# EAGLE library part HT1632CV120 (library HT1632)
HT1632 LED driver library designed by Mike McPherson (mmcp42) available for download here: http://www.mmcpix.com/CNC/HT1632.lbr
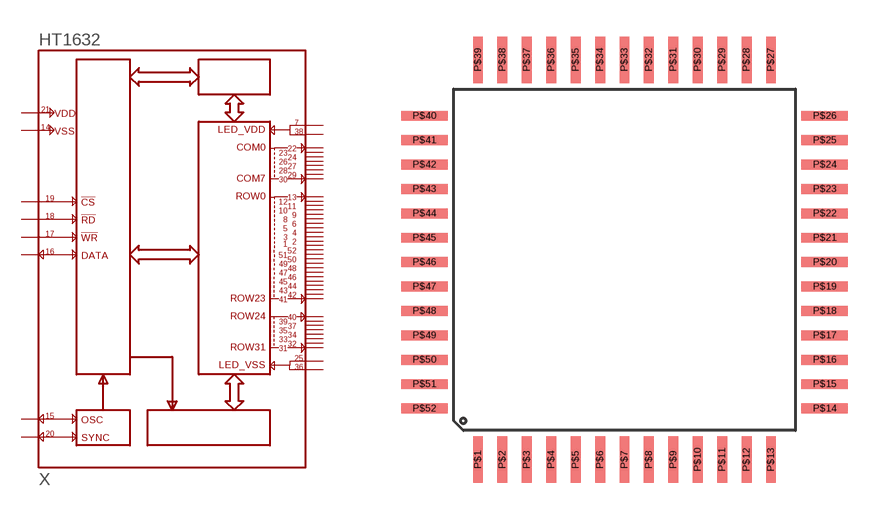
[diagram p0: symbol with the pads of QFP52; footprint QFP52]

Designator prefix X

## HT1632CV120  [QFP52]
P$1  ROW11
P$2  ROW10
P$3  ROW9
P$4  ROW8
P$5  ROW7
P$6  ROW6
P$7  LED_VDD1
P$8  ROW5
P$9  ROW4
P$10  ROW3
P$11  ROW2
P$12  ROW1
P$13  ROW0
P$14  VSS
P$15  OSC
P$16  DATA
P$17  !WR
P$18  !RD
P$19  !CS
P$20  SYNC
P$21  VDD
P$22  COM0
P$23  COM1
P$24  COM2
P$25  LED_VSS1
P$26  COM3
P$27  COM4
P$28  COM5
P$29  COM6
P$30  COM7
P$31  ROW31
P$32  ROW30
P$33  ROW29
P$34  ROW28
P$35  ROW27
P$36  LED_VSS2
P$37  ROW26
P$38  LED_VDD2
P$39  ROW25
P$40  ROW24
P$41  ROW23
P$42  ROW22
P$43  ROW21
P$44  ROW20
P$45  ROW19
P$46  ROW18
P$47  ROW17
P$48  ROW16
P$49  ROW15
P$50  ROW14
P$51  ROW13
P$52  ROW12

## Footprint QFP52 (pad centres in mm)
smd 0.406 x 1.9: P$1 -6,-8.1; P$2 -5,-8.1; P$3 -4,-8.1; P$4 -3,-8.1; P$5 -2,-8.1; P$6 -1,-8.1; P$7 0,-8.1; P$8 1,-8.1; P$9 2,-8.1; P$10 3,-8.1; P$11 4,-8.1; P$12 5,-8.1; P$13 6,-8.1; P$27 6,8.3; P$28 5,8.3; P$29 4,8.3; P$30 3,8.3; P$31 2,8.3; P$32 1,8.3; P$33 0,8.3; P$34 -1,8.3; P$35 -2,8.3; P$36 -3,8.3; P$37 -4,8.3; P$38 -5,8.3; P$39 -6,8.3
smd 1.9 x 0.406: P$14 8.2,-6; P$15 8.2,-5; P$16 8.2,-4; P$17 8.2,-3; P$18 8.2,-2; P$19 8.2,-1; P$20 8.2,0; P$21 8.2,1; P$22 8.2,2; P$23 8.2,3; P$24 8.2,4; P$25 8.2,5; P$26 8.2,6; P$40 -8.2,6; P$41 -8.2,5; P$42 -8.2,4; P$43 -8.2,3; P$44 -8.2,2; P$45 -8.2,1; P$46 -8.2,0; P$47 -8.2,-1; P$48 -8.2,-2; P$49 -8.2,-3; P$50 -8.2,-4; P$51 -8.2,-5; P$52 -8.2,-6